# EAGLE library part LAUNCHPAD (library PrjBlinkenlights)
TI LaunchPad MSP-EXP430G2
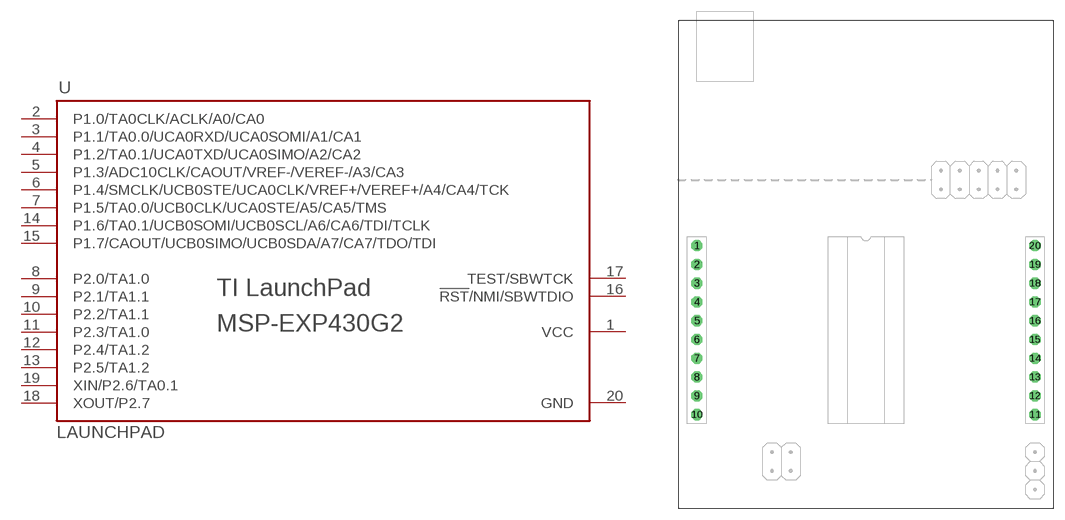
[diagram p0: symbol with the pads of LAUNCHPAD; footprint LAUNCHPAD]

Designator prefix U

## LAUNCHPAD  [LAUNCHPAD]
1  VCC
2  P1.0/TA0CLK/ACLK/A0/CA0
3  P1.1/TA0.0/UCA0RXD/UCA0SOMI/A1/CA1
4  P1.2/TA0.1/UCA0TXD/UCA0SIMO/A2/CA2
5  P1.3/ADC10CLK/CAOUT/VREF-/VEREF-/A3/CA3
6  P1.4/SMCLK/UCB0STE/UCA0CLK/VREF+/VEREF+/A4/CA4/TCK
7  P1.5/TA0.0/UCB0CLK/UCA0STE/A5/CA5/TMS
8  P2.0/TA1.0
9  P2.1/TA1.1
10  P2.2/TA1.1
11  P2.3/TA1.0
12  P2.4/TA1.2
13  P2.5/TA1.2
14  P1.6/TA0.1/UCB0SOMI/UCB0SCL/A6/CA6/TDI/TCLK
15  P1.7/CAOUT/UCB0SIMO/UCB0SDA/A7/CA7/TDO/TDI
16  !RST!/NMI/SBWTDIO
17  TEST/SBWTCK
18  XOUT/P2.7
19  XIN/P2.6/TA0.1
20  GND

## Footprint LAUNCHPAD (pad centres in mm)
TI LaunchPad Size: 2.0 x 2.6 inch = 50.8 x 66.04mm
drill 1 octagon: 1 -22.86,11.43; 2 -22.86,8.89; 3 -22.86,6.35; 4 -22.86,3.81; 5 -22.86,1.27; 6 -22.86,-1.27; 7 -22.86,-3.81; 8 -22.86,-6.35; 9 -22.86,-8.89; 10 -22.86,-11.43; 11 22.86,-11.43; 12 22.86,-8.89; 13 22.86,-6.35; 14 22.86,-3.81; 15 22.86,-1.27; 16 22.86,1.27; 17 22.86,3.81; 18 22.86,6.35; 19 22.86,8.89; 20 22.86,11.43